# Altium footprint library SnapEDApcb.PcbLib: 1 footprints
Each footprint in its own frame and in the unit in brackets; x right, y up, seen from the top. Pads: shape width x height; smd on the part's side, far side on the other; paste and mask are expansions set on the pad; w line width, h text height; cw(c..) or ccw(c..) is an arc to the next point about the centre after c.
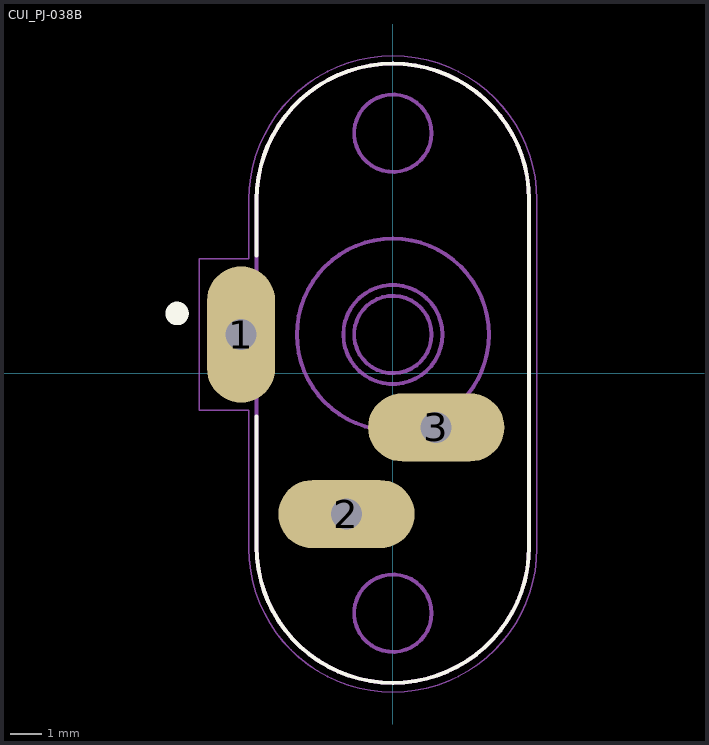
[diagram p0: the footprint, top view; thin cyan lines are the x and y axes]

## CUI_PJ-038B [mm]
pads (3):
  oval 2.2x4.4 hole 1 square: 1(-4.9,1.25)
  oval 4.4x2.2 hole 1 square: 2(-1.5,-4.55) 3(1.4,-1.75)
Top Overlay:
  circle w0.38: c-6.97,1.93 r0.19
  lines w0.127: -4.4,-1.4 -4.4,-5.6 ccw(c0,-5.6) 0,-10 ccw(c0,-5.6) 4.4,-5.6 4.4,5.6 ccw(c0,5.6) 0,10 ccw(c0,5.6) -4.4,5.6 -4.4,3.8
Mechanical 13:
  circle w0.127: c0,-7.75 r1.25
  circle w0.127: c0,7.75 r1.25
  circle w0.127: c0,1.25 r1.25
  circle w0.127: c0,1.25 r3.1
  circle w0.127: c0,1.25 r1.6
  lines w0.127: -4.4,-5.6 ccw(c0,-5.6) 0,-10 ccw(c0,-5.6) 4.4,-5.6 4.4,5.6 ccw(c0,5.6) 0,10 ccw(c0,5.6) -4.4,5.6 -4.4,-5.6
Mechanical 15:
  lines w0.05: -6.25,-1.2 -4.65,-1.2 -4.65,-5.65 ccw(c0,-5.65) 0,-10.3 ccw(c0,-5.65) 4.65,-5.65 4.65,5.6 ccw(c0,5.6) 0,10.25 ccw(c0,5.6) -4.65,5.6 -4.65,3.7 -6.25,3.7 -6.25,-1.2
3D body "pj-038b.stp": height 13.57, standoff -4.43, extent -5.106,-9.967 4.344,10.033